# Altium footprint library TMDX654GPEVM_BRD.PcbLib: 153 footprints (part 12 of 12)
Each footprint in its own frame and in the unit in brackets; x right, y up, seen from the top. Pads: shape width x height; smd on the part's side, far side on the other; paste and mask are expansions set on the pad; w line width, h text height; cw(c..) or ccw(c..) is an arc to the next point about the centre after c.
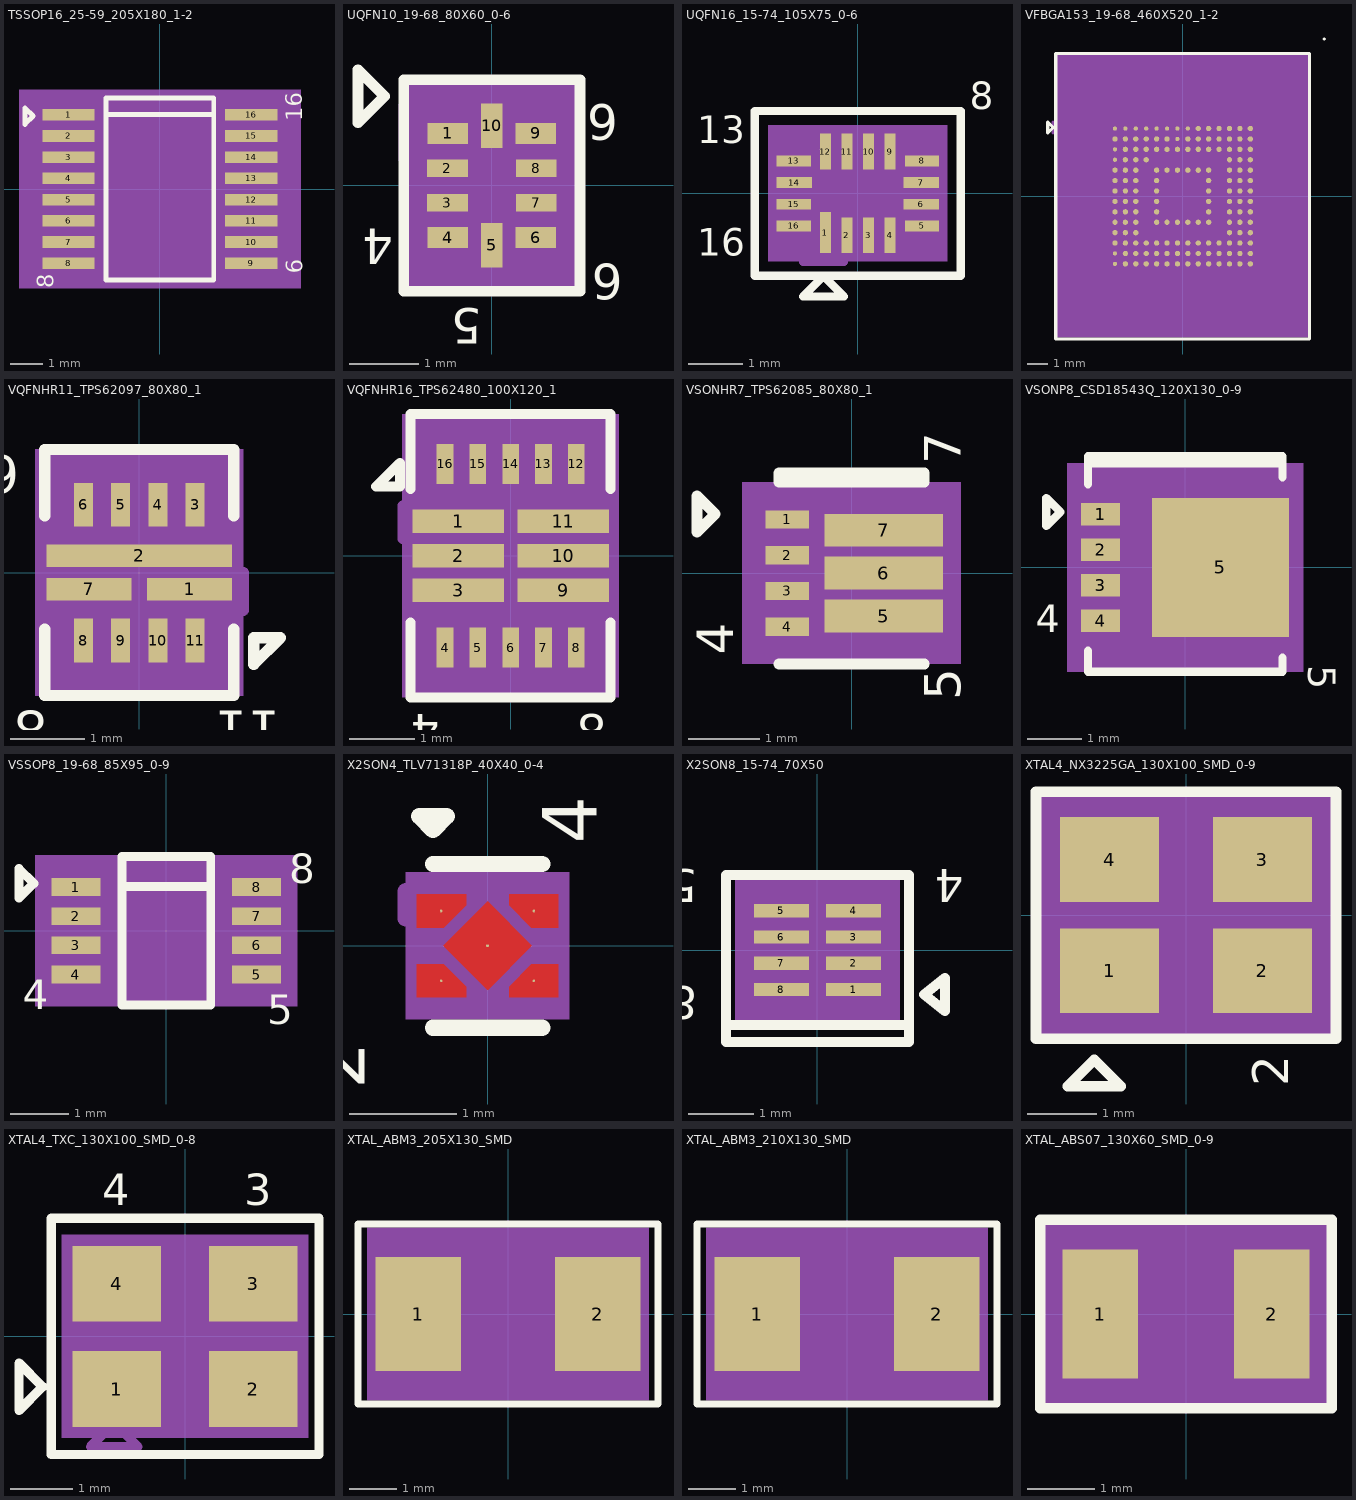
[diagram p11: the footprints below, top view; thin cyan lines are the x and y axes]

## TSSOP16_25-59_205X180_1-2 [mil] "TSSOP16_25-59_205X180_1-2"
pads (16):
  rect 63x14 smd: 1(-110.24,89.57) 2(-110.24,63.98) 3(-110.24,38.39) 4(-110.24,12.8) 5(-110.24,-12.8) 6(-110.24,-38.39) 7(-110.24,-63.98) 8(-110.24,-89.57) 9(110.24,-89.57) 10(110.24,-63.98) 11(110.24,-38.39) 12(110.24,-12.8) 13(110.24,12.8) 14(110.24,38.39) 15(110.24,63.98) 16(110.24,89.57)
Top Overlay:
  lines w6: -65,90 65,90 ; -163,78 -163,98 -153,88 -163,78 ; -65,-110 65,-110 65,110 -65,110 -65,-110
  text ".Designator" at 26,158 h30
  text "8" at -128,-119.5 h20
  text "9" at 152,-84.5 h20
  text "16" at 172,82 h20
Top Courtyard:
  dashed: -148.74,-107 -148.74,107 148.74,107 148.74,-107
Top 3D Body:
  region: -170,-120 170,-120 170,120 -170,120
Mechanical 10:
  lines w6: -90,80 90,80 ; -105,80 -105,100 -95,90 -105,80 ; -90,-100 90,-100 90,100 -90,100 -90,-100
  text "U46" at 22,-48 h30
Mechanical 11:
  lines w6: -90,80 90,80 ; -105,80 -105,100 -95,90 -105,80 ; -90,-100 90,-100 90,100 -90,100 -90,-100
  text "U46" at 22,-48 h30
Mechanical 12:
  lines w6: -90,80 90,80 ; -105,80 -105,100 -95,90 -105,80 ; -90,-100 90,-100 90,100 -90,100 -90,-100
  text "U46" at 22,-48 h30
Mechanical 13:
  lines w6: -90,80 90,80 ; -105,80 -105,100 -95,90 -105,80 ; -90,-100 90,-100 90,100 -90,100 -90,-100
  text "U46" at 22,-48 h30
Mechanical 14:
  lines w6: -90,80 90,80 ; -105,80 -105,100 -95,90 -105,80 ; -90,-100 90,-100 90,100 -90,100 -90,-100
  text "U46" at 22,-48 h30
Mechanical47:
  text "10" at 110.24,-71.98 h10
  text "9" at 110.24,-93.57 h10
  text "16" at 110.24,81.57 h10
  text "6" at -110.24,-42.39 h10
  text "4" at -110.24,8.8 h10
  text "2" at -110.24,59.98 h10
  text "3" at -110.24,34.39 h10
  text "8" at -110.24,-93.57 h10
  text "1" at -110.24,85.57 h10
  text "7" at -110.24,-67.98 h10
  text "5" at -110.24,-16.8 h10
  text "13" at 110.24,4.8 h10
  text "15" at 110.24,55.98 h10
  text "14" at 110.24,30.39 h10
  text "12" at 110.24,-20.8 h10
  text "11" at 110.24,-46.39 h10
Top Assembly:
  lines w6: -90,80 90,80 ; -105,80 -105,100 -95,90 -105,80 ; -90,-100 90,-100 90,100 -90,100 -90,-100
3D body: height 150, standoff 0, extent -170,-120 170,120

## UQFN10_19-68_80X60_0-6 [mil] "UQFN10_19-68_80X60_0-6"
pads (10):
  rect 23x12 smd: 1(-25,29.53) 4(-25,-29.53) 6(25,-29.53) 9(25,29.53)
  rect 23x10 smd: 2(-25.1,9.84) 3(-25.1,-9.84) 7(25.1,-9.84) 8(25.1,9.84)
  rect 12x25 smd: 5(0,-33.86) 10(0,33.86)
Top Overlay:
  lines w6: -75.81,35.5 -75.81,65.5 -60.81,50.5 -75.81,35.5 ; -50,-60 50,-60 50,60 -50,60 -50,-60
  text ".Designator" at 60.69,-94.5 h30
  text "4" at -55.81,-24.5 h20
  text "5" at -5.81,-69.5 h20
  text "6" at 74.19,-44.5 h20
  text "9" at 54.19,25.5 h20
Top Courtyard:
  dashed: -42.6,-52.36 -42.6,52.36 42.6,52.36 42.6,-52.36
Top 3D Body:
  region: -50,-60 50,-60 50,60 -50,60
Mechanical 10:
  lines w6: -50,15 -35,30 -50,45 -50,15 ; -30,-40 30,-40 30,40 -30,40 -30,-40
  text "U47" at 32.69,-54.5 h30
Mechanical 11:
  lines w6: -50,15 -35,30 -50,45 -50,15 ; -30,-40 30,-40 30,40 -30,40 -30,-40
  text "U47" at 32.69,-54.5 h30
Mechanical 12:
  lines w6: -50,15 -35,30 -50,45 -50,15 ; -30,-40 30,-40 30,40 -30,40 -30,-40
  text "U47" at 32.69,-54.5 h30
Mechanical 13:
  lines w6: -50,15 -35,30 -50,45 -50,15 ; -30,-40 30,-40 30,40 -30,40 -30,-40
  text "U47" at 32.69,-54.5 h30
Mechanical 14:
  lines w6: -50,15 -35,30 -50,45 -50,15 ; -30,-40 30,-40 30,40 -30,40 -30,-40
  text "U47" at 32.69,-54.5 h30
Mechanical47:
  text "5" at 13,-35 h10
  text "6" at 37,-33.33 h10
  text "10" at 25,31.67 h10
  text "8" at 37,6.67 h10
  text "2" at -13,6.67 h10
  text "7" at 37,-15.83 h10
  text "3" at -13,-13.33 h10
  text "1" at -13,26.67 h10
  text "9" at 37,26.67 h10
  text "4" at -12,-35 h10
Top Assembly:
  lines w6: -50,15 -35,30 -50,45 -50,15 ; -30,-40 30,-40 30,40 -30,40 -30,-40
3D body: height 150, standoff 0, extent -50,-60 50,60

## UQFN16_15-74_105X75_0-6 [mil] "UQFN16_15-74_105X75_0-6"
pads (16):
  rect 8x30 smd: 1(-23.62,-28.54)
  rect 8x26 smd: 2(-7.87,-30.51) 3(7.87,-30.51) 4(23.62,-30.51) 9(23.62,30.51) 10(7.87,30.51) 11(-7.87,30.51) 12(-23.62,30.51)
  rect 25x8 smd: 5(46.76,-23.62) 8(46.76,23.62) 13(-46.76,23.62) 15(-46.76,-7.87) 16(-46.76,-23.62)
  rect 26x8 smd: 6(46.26,-7.87) 7(46.26,7.87) 14(-46.26,7.87)
Top Overlay:
  lines w6: -75,-60 -75,60 75,60 75,-60 -75,-60 ; -40,-75 -25,-60 -10,-75 -40,-75
  text ".Designator" at -18.12,81.46 h30
  text "8" at 81.38,61.46 h20
  text "16" at -117.12,-45.21 h20
  text "13" at -117.12,36.46 h20
Top Courtyard:
  dashed: -65.26,-49.51 -65.26,49.51 65.26,49.51 65.26,-49.51
Top 3D Body:
  region: -50,35 -50,-35 50,-35 50,35
Mechanical 10:
  lines w6: -50,-35 50,-35 50,35 -50,35 -50,-35 ; -40,-50 -25,-35 -10,-50 -40,-50
  text "U6" at -18.12,-13.54 h30
Mechanical 11:
  lines w6: -50,-35 50,-35 50,35 -50,35 -50,-35 ; -40,-50 -25,-35 -10,-50 -40,-50
  text "U6" at -18.12,-13.54 h30
Mechanical 12:
  lines w6: -50,-35 50,-35 50,35 -50,35 -50,-35 ; -40,-50 -25,-35 -10,-50 -40,-50
  text "U6" at -18.12,-13.54 h30
Mechanical 13:
  lines w6: -50,-35 50,-35 50,35 -50,35 -50,-35 ; -40,-50 -25,-35 -10,-50 -40,-50
  text "U6" at -18.12,-13.54 h30
Mechanical 14:
  lines w6: -50,-35 50,-35 50,35 -50,35 -50,-35 ; -40,-50 -25,-35 -10,-50 -40,-50
  text "U6" at -18.12,-13.54 h30
Mechanical47:
  text "2" at -9.87,-26.51 h10
  text "7" at 43.26,2.87 h10
  text "8" at 43.76,18.62 h10
  text "5" at 43.76,-28.62 h10
  text "6" at 43.26,-12.87 h10
  text "4" at 21.62,-26.51 h10
  text "16" at -54.76,-30.29 h10
  text "11" at -21,40.75 h10
  text "10" at -6,40.75 h10
  text "1" at -25.62,-24.54 h10
  text "3" at 5.87,-26.51 h10
  text "14" at -54.26,1.21 h10
  text "12" at -36,40.75 h10
  text "13" at -54.76,16.96 h10
  text "15" at -54.76,-14.54 h10
  text "9" at 22,35.75 h10
Top Assembly:
  lines w6: -50,-35 50,-35 50,35 -50,35 -50,-35 ; -40,-50 -25,-35 -10,-50 -40,-50
3D body: height 150, standoff 0, extent -50,-35 50,35

## VFBGA153_19-68_460X520_1-2 [mil] "VFBGA153_19-68_460X520_1-2"
pads (153):
  round 8 smd: A1(-127.95,127.95) A2(-108.27,127.95) A3(-88.58,127.95) A4(-68.9,127.95) A5(-49.21,127.95) A6(-29.53,127.95) A7(-9.84,127.95) A8(9.84,127.95) B7(-9.84,108.27) C1(-127.95,88.58) D1(-127.95,68.9) N1(-127.95,-108.27) P1(-127.95,-127.95)
  round 10 smd: A9(29.53,127.95) A10(49.21,127.95) A11(68.9,127.95) A12(88.58,127.95) A13(108.27,127.95) A14(127.95,127.95) B1(-127.95,108.27) B2(-108.27,108.27) B3(-88.58,108.27) B4(-68.9,108.27) B5(-49.21,108.27) B6(-29.53,108.27) B8(9.84,108.27) B9(29.53,108.27) B10(49.21,108.27) B11(68.9,108.27) B12(88.58,108.27) B13(108.27,108.27) B14(127.95,108.27) C2(-108.27,88.58) C3(-88.58,88.58) C4(-68.9,88.58) C5(-49.21,88.58) C6(-29.53,88.58) C7(-9.84,88.58) C8(9.84,88.58) C9(29.53,88.58) C10(49.21,88.58) C11(68.9,88.58) C12(88.58,88.58) C13(108.27,88.58) C14(127.95,88.58) D2(-108.27,68.9) D3(-88.58,68.9) D4(-68.9,68.9) D12(88.58,68.9) D13(108.27,68.9) D14(127.95,68.9) E1(-127.95,49.21) E2(-108.27,49.21) E3(-88.58,49.21) E5(-49.21,49.21) E6(-29.53,49.21) E7(-9.84,49.21) E8(9.84,49.21) E9(29.53,49.21) E10(49.21,49.21) E12(88.58,49.21) E13(108.27,49.21) E14(127.95,49.21) F1(-127.95,29.53) F2(-108.27,29.53) F3(-88.58,29.53) F5(-49.21,29.53) F10(49.21,29.53) F12(88.58,29.53) F13(108.27,29.53) F14(127.95,29.53) G1(-127.95,9.84) G2(-108.27,9.84) G3(-88.58,9.84) G5(-49.21,9.84) G10(49.21,9.84) G12(88.58,9.84) G13(108.27,9.84) G14(127.95,9.84) H1(-127.95,-9.84) H2(-108.27,-9.84) H3(-88.58,-9.84) H5(-49.21,-9.84) H10(49.21,-9.84) H12(88.58,-9.84) H13(108.27,-9.84) H14(127.95,-9.84) J1(-127.95,-29.53) J2(-108.27,-29.53) J3(-88.58,-29.53) J5(-49.21,-29.53) J10(49.21,-29.53) J12(88.58,-29.53) J13(108.27,-29.53) J14(127.95,-29.53) K1(-127.95,-49.21) K2(-108.27,-49.21) K3(-88.58,-49.21) K5(-49.21,-49.21) K6(-29.53,-49.21) K7(-9.84,-49.21) K8(9.84,-49.21) K9(29.53,-49.21) K10(49.21,-49.21) K12(88.58,-49.21) K13(108.27,-49.21) K14(127.95,-49.21) L1(-127.95,-68.9) L2(-108.27,-68.9) L3(-88.58,-68.9) L12(88.58,-68.9) L13(108.27,-68.9) L14(127.95,-68.9) M1(-127.95,-88.58) M2(-108.27,-88.58) M3(-88.58,-88.58) M4(-68.9,-88.58) M5(-49.21,-88.58) M6(-29.53,-88.58) M7(-9.84,-88.58) M8(9.84,-88.58) M9(29.53,-88.58) M10(49.21,-88.58) M11(68.9,-88.58) M12(88.58,-88.58) M13(108.27,-88.58) M14(127.95,-88.58) N2(-108.27,-108.27) N3(-88.58,-108.27) N4(-68.9,-108.27) N5(-49.21,-108.27) N6(-29.53,-108.27) N7(-9.84,-108.27) N8(9.84,-108.27) N9(29.53,-108.27) N10(49.21,-108.27) N11(68.9,-108.27) N12(88.58,-108.27) N13(108.27,-108.27) N14(127.95,-108.27) P2(-108.27,-127.95) P3(-88.58,-127.95) P4(-68.9,-127.95) P5(-49.21,-127.95) P6(-29.53,-127.95) P7(-9.84,-127.95) P8(9.84,-127.95) P9(29.53,-127.95) P10(49.21,-127.95) P11(68.9,-127.95) P12(88.58,-127.95) P13(108.27,-127.95) P14(127.95,-127.95)
Top Overlay:
  lines w6: -240.47,-270 240,-270 240,270 -240,270 -240,-270 ; 267.24,297.24 267.72,297.24 ; -255,120 -255,140 -245,130 -255,120
  text ".Designator" at 255.98,20 h30
Top Courtyard:
  dashed: -237,-267 237,-267 237,267 -237,267
Top 3D Body:
  region: -230,260 230,260 230,-260 -230,-260
Mechanical 10:
  lines w6: -245,120 -245,140 -235,130 -245,120 ; -230,-260 230,-260 230,260 -230,260 -230,-260
  text "U51" at -36,-10 h30
Mechanical 11:
  lines w6: -245,120 -245,140 -235,130 -245,120 ; -230,-260 230,-260 230,260 -230,260 -230,-260
  text "U51" at -36,-10 h30
Mechanical 12:
  lines w6: -245,120 -245,140 -235,130 -245,120 ; -230,-260 230,-260 230,260 -230,260 -230,-260
  text "U51" at -36,-10 h30
Mechanical 13:
  lines w6: -245,120 -245,140 -235,130 -245,120 ; -230,-260 230,-260 230,260 -230,260 -230,-260
  text "U51" at -36,-10 h30
Mechanical 14:
  lines w6: -245,120 -245,140 -235,130 -245,120 ; -230,-260 230,-260 230,260 -230,260 -230,-260
  text "U51" at -36,-10 h30
Mechanical47:
  text "F5" at -57.21,29.53 h10
  text "E6" at -37.53,49.21 h10
  text "J10" at 37.21,-29.53 h10
  text "K9" at 21.53,-49.21 h10
  text "N5" at -57.21,-108.27 h10
  text "J5" at -57.21,-29.53 h10
  text "P6" at -37.53,-127.95 h10
  text "P4" at -76.9,-127.95 h10
  text "N2" at -116.27,-108.27 h10
  text "H10" at 37.21,-9.84 h10
  text "C4" at -76.9,88.58 h10
  text "K8" at 1.84,-49.21 h10
  text "G5" at -57.21,9.84 h10
  text "E7" at -17.84,49.21 h10
  text "A6" at -37.53,127.95 h10
  text "M4" at -76.9,-88.58 h10
  text "C6" at -37.53,88.58 h10
  text "P5" at -57.21,-127.95 h10
  text "P3" at -96.58,-127.95 h10
  text "N4" at -76.9,-108.27 h10
  text "B6" at -37.53,108.27 h10
  text "B3" at -96.58,108.27 h10
  text "A5" at -57.21,127.95 h10
  text "K5" at -57.21,-49.21 h10
  text "C2" at -116.27,88.58 h10
  text "H5" at -57.21,-9.84 h10
  text "A3" at -96.58,127.95 h10
  text "M6" at -37.53,-88.58 h10
  text "A4" at -76.9,127.95 h10
  text "B5" at -57.21,108.27 h10
  text "B2" at -116.27,108.27 h10
  text "B4" at -76.9,108.27 h10
  text "M5" at -57.21,-88.58 h10
  text "K7" at -17.84,-49.21 h10
  text "K6" at -37.53,-49.21 h10
  text "G10" at 37.21,9.84 h10
  text "F10" at 37.21,29.53 h10
  text "E10" at 37.21,49.21 h10
  text "E9" at 21.53,49.21 h10
  text "E8" at 1.84,49.21 h10
  text "E5" at -57.21,49.21 h10
  text "P10" at 37.21,-127.95 h10
  text "K10" at 37.21,-49.21 h10
  text "A7" at -17.84,127.95 h10
  text "N13" at 96.27,-108.27 h10
  text "N12" at 76.58,-108.27 h10
  text "N11" at 56.9,-108.27 h10
  text "N10" at 37.21,-108.27 h10
  text "N9" at 21.53,-108.27 h10
  text "N8" at 1.84,-108.27 h10
  text "N7" at -17.84,-108.27 h10
  text "N6" at -37.53,-108.27 h10
  text "N3" at -96.58,-108.27 h10
  text "N1" at -135.95,-108.27 h10
  text "A14" at 115.95,127.95 h10
  text "M14" at 115.95,-88.58 h10
  text "M13" at 96.27,-88.58 h10
  text "M12" at 76.58,-88.58 h10
  text "M11" at 56.9,-88.58 h10
  text "M10" at 37.21,-88.58 h10
  text "M9" at 21.53,-88.58 h10
  text "M8" at 1.84,-88.58 h10
  text "M7" at -17.84,-88.58 h10
  text "M3" at -96.58,-88.58 h10
  text "M2" at -116.27,-88.58 h10
  text "A13" at 96.27,127.95 h10
  text "M1" at -135.95,-88.58 h10
  text "L14" at 115.95,-68.9 h10
  text "L13" at 96.27,-68.9 h10
  text "L12" at 76.58,-68.9 h10
  text "L3" at -96.58,-68.9 h10
  text "L2" at -116.27,-68.9 h10
  text "L1" at -135.95,-68.9 h10
  text "K14" at 115.95,-49.21 h10
  text "K13" at 96.27,-49.21 h10
  text "K12" at 76.58,-49.21 h10
  text "A12" at 76.58,127.95 h10
  text "K3" at -96.58,-49.21 h10
  text "K2" at -116.27,-49.21 h10
  text "K1" at -135.95,-49.21 h10
  text "J14" at 115.95,-29.53 h10
  text "J13" at 96.27,-29.53 h10
  text "J12" at 76.58,-29.53 h10
  text "J3" at -96.58,-29.53 h10
  text "J2" at -116.27,-29.53 h10
  text "J1" at -135.95,-29.53 h10
  text "H14" at 115.95,-9.84 h10
  text "A11" at 56.9,127.95 h10
  text "H13" at 96.27,-9.84 h10
  text "H12" at 76.58,-9.84 h10
  text "H3" at -96.58,-9.84 h10
  text "H2" at -116.27,-9.84 h10
  text "H1" at -135.95,-9.84 h10
  text "G14" at 115.95,9.84 h10
  text "G13" at 96.27,9.84 h10
  text "G12" at 76.58,9.84 h10
  text "G3" at -96.58,9.84 h10
  text "G2" at -116.27,9.84 h10
  text "A10" at 37.21,127.95 h10
  text "G1" at -135.95,9.84 h10
  text "F14" at 115.95,29.53 h10
  text "F13" at 96.27,29.53 h10
  text "F12" at 76.58,29.53 h10
  text "F3" at -96.58,29.53 h10
  text "F2" at -116.27,29.53 h10
  text "F1" at -135.95,29.53 h10
  text "E14" at 115.95,49.21 h10
  text "E13" at 96.27,49.21 h10
  text "E12" at 76.58,49.21 h10
  text "A9" at 21.53,127.95 h10
  text "E3" at -96.58,49.21 h10
  text "E2" at -116.27,49.21 h10
  text "E1" at -135.95,49.21 h10
  text "D14" at 115.95,68.9 h10
  text "D13" at 96.27,68.9 h10
  text "D12" at 76.58,68.9 h10
  text "D4" at -76.9,68.9 h10
  text "D3" at -96.58,68.9 h10
  text "D2" at -116.27,68.9 h10
  text "D1" at -135.95,68.9 h10
  text "A8" at 1.84,127.95 h10
  text "C14" at 115.95,88.58 h10
  text "C13" at 96.27,88.58 h10
  text "C12" at 76.58,88.58 h10
  text "C11" at 56.9,88.58 h10
  text "C10" at 37.21,88.58 h10
  text "C9" at 21.53,88.58 h10
  text "C8" at 1.84,88.58 h10
  text "C7" at -17.84,88.58 h10
  text "C5" at -57.21,88.58 h10
  text "C3" at -96.58,88.58 h10
  text "A2" at -116.27,127.95 h10
  text "C1" at -135.95,88.58 h10
  text "B14" at 115.95,108.27 h10
  text "B13" at 96.27,108.27 h10
  text "B12" at 76.58,108.27 h10
  text "B11" at 56.9,108.27 h10
  text "B10" at 37.21,108.27 h10
  text "B9" at 21.53,108.27 h10
  text "B8" at 1.84,108.27 h10
  text "B7" at -17.84,108.27 h10
  text "P14" at 115.95,-127.95 h10
  text "P13" at 96.27,-127.95 h10
  text "P12" at 76.58,-127.95 h10
  text "P11" at 56.9,-127.95 h10
  text "P9" at 21.53,-127.95 h10
  text "P8" at 1.84,-127.95 h10
  text "P7" at -17.84,-127.95 h10
  text "P2" at -116.27,-127.95 h10
  text "P1" at -135.95,-127.95 h10
  text "N14" at 115.95,-108.27 h10
  text "B1" at -135.95,108.27 h10
  text "A1" at -135.95,127.95 h10
Top Assembly:
  lines w6: -245,120 -245,140 -235,130 -245,120 ; -230,-260 230,-260 230,260 -230,260 -230,-260
Bottom Component Outline:
  text "A" at -172.5,123.33 h20
  text "B" at -157.5,98.33 h20
  text "C" at -172.5,78.33 h20
  text "D" at -157.5,63.33 h20
  text "E" at -177.5,43.33 h20
  text "F" at -157.5,23.33 h20
  text "G" at -177.5,3.33 h20
  text "H" at -157.5,-16.67 h20
  text "J" at -177.5,-31.67 h20
  text "K" at -157.5,-51.67 h20
  text "L" at -182.5,-76.67 h20
  text "M" at -157.5,-96.67 h20
  text "N" at -182.5,-116.67 h20
  text "P" at -162.5,-136.67 h20
  text "1" at -127.5,158.33 h20
  text "2" at -102.5,183.33 h20
  text "3" at -82.5,158.33 h20
  text "4" at -62.5,178.33 h20
  text "5" at -42.5,158.33 h20
  text "6" at -22.5,178.33 h20
  text "7" at -2.5,158.33 h20
  text "8" at 17.5,183.33 h20
  text "9" at 37.5,158.33 h20
  text "10" at 66,183.33 h20
  text "11" at 91,158.33 h20
  text "12" at 116,183.33 h20
  text "13" at 136,158.33 h20
  text "14" at 156,183.33 h20
3D body: height 150, standoff 0, extent -230,-260 230,260

## VQFNHR11_TPS62097_80X80_1 [mil] "VQFNHR11_TPS62097_80X80_1"
pads (11):
  rect 45x12 smd: 1(26.57,-8.86) 7(-26.57,-8.86)
  rect 98x12 smd: 2(0,8.86)
  rect 10x23 smd: 3(29.53,35.93) 4(9.84,35.93) 5(-9.84,35.93) 6(-29.53,35.93) 8(-29.53,-35.93) 9(-9.84,-35.93) 10(9.84,-35.93) 11(29.53,-35.93)
Top Overlay:
  lines w6: -50,-30 -50,-65 50,-65 50,-30 ; -50,30 -50,65 50,65 50,30 ; 60.45,-48.61 60.45,-34.46 74.59,-34.46 60.45,-48.61
  text ".Designator" at -101.02,26 h30
  text "6" at -63.52,62 h20
  text "8" at -48.52,-73 h20
  text "11" at 74.98,-73 h20
Top Paste:
  dashed: -5.91,-4.92 -5.91,-12.8 -22.64,-12.8 -22.64,-4.92
  dashed: -30.51,-4.92 -30.51,-12.8 -47.24,-12.8 -47.24,-4.92
  dashed: 22.64,-4.92 22.64,-12.8 5.91,-12.8 5.91,-4.92
  dashed: 47.24,-4.92 47.24,-12.8 30.51,-12.8 30.51,-4.92
  dashed: 46.22,12.8 46.22,4.92 20.71,4.92 20.71,12.8
  dashed: 12.76,12.8 12.76,4.92 -12.76,4.92 -12.76,12.8
  dashed: -20.71,12.8 -20.71,4.92 -46.22,4.92 -46.22,12.8
Top Courtyard:
  dashed: 53.07,53.43 53.07,-53.43 -53.07,-53.43 -53.07,53.43
Top 3D Body:
  region: 55,-65 55,65 -55,65 -55,-65
Mechanical 15:
  lines w6: -40,-40 -40,40 40,40 40,-40 -40,-40 ; 45,-10 55,-20 55,0 45,-10
  text "U63" at -56.02,14 h30
Mechanical 16:
  lines w6: -40,-40 -40,40 40,40 40,-40 -40,-40 ; 45,-10 55,-20 55,0 45,-10
  text "U63" at -56.02,14 h30
Mechanical 17:
  lines w6: -40,-40 -40,40 40,40 40,-40 -40,-40 ; 45,-10 55,-20 55,0 45,-10
  text "U63" at -56.02,14 h30
Mechanical 18:
  lines w6: -40,-40 -40,40 40,40 40,-40 -40,-40 ; 45,-10 55,-20 55,0 45,-10
  text "U63" at -56.02,14 h30
Mechanical 19:
  lines w6: -40,-40 -40,40 40,40 40,-40 -40,-40 ; 45,-10 55,-20 55,0 45,-10
  text "U63" at -56.02,14 h30
Mechanical47:
  text "10" at 1.84,-30.93 h10
  text "6" at -33.53,40.93 h10
  text "9" at -13.84,-30.93 h10
  text "8" at -33.53,-30.93 h10
  text "7" at -30.57,-3.86 h10
  text "5" at -13.84,40.93 h10
  text "4" at 5.84,40.93 h10
  text "2" at -4,13.33 h10
  text "11" at 21.53,-30.93 h10
  text "1" at 22.57,-3.86 h10
  text "3" at 25.53,40.93 h10
Top Assembly:
  lines w6: -40,-40 -40,40 40,40 40,-40 -40,-40 ; 45,-10 55,-20 55,0 45,-10
Top Component Outline:
  text "3" at 61.48,102 h20
3D body: height 150, standoff 0, extent -55,-65 55,65

## VQFNHR16_TPS62480_100X120_1 [mil] "VQFNHR16_TPS62480_100X120_1"
pads (16):
  rect 55x14 smd: 1(-31.5,20.67) 2(-31.5,0) 3(-31.5,-20.67) 9(31.5,-20.67) 10(31.5,0) 11(31.5,20.67)
  rect 10x24 smd: 4(-39.37,-55.12) 5(-19.68,-55.12) 6(0,-55.12) 7(19.68,-55.12) 8(39.37,-55.12) 12(39.37,55.12) 13(19.68,55.12) 14(0,55.12) 15(-19.68,55.12) 16(-39.37,55.12)
Top Overlay:
  lines w6: -60,-40 -60,-85 60,-85 60,-40 ; -60,40 -60,85 60,85 60,40 ; -80.62,41.46 -66.48,55.61 -66.48,41.46 -80.62,41.46
  text ".Designator" at 18.98,-140 h30
  text "4" at -42.52,-95 h20
  text "8" at 57.48,-95 h20
Top Paste:
  dashed: -57.09,15.75 -57.09,25.59 -35.43,25.59 -35.43,15.75
  dashed: -57.09,-4.92 -57.09,4.92 -35.43,4.92 -35.43,-4.92
  dashed: -57.09,-25.59 -57.09,-15.75 -35.43,-15.75 -35.43,-25.59
  dashed: 35.43,15.75 35.43,25.59 57.09,25.59 57.09,15.75
  dashed: 35.43,-4.92 35.43,4.92 57.09,4.92 57.09,-4.92
  dashed: 35.43,-25.59 35.43,-15.75 57.09,-15.75 57.09,-25.59
  dashed: -27.56,15.75 -27.56,25.59 -5.91,25.59 -5.91,15.75
  dashed: -27.56,-4.92 -27.56,4.92 -5.91,4.92 -5.91,-4.92
  dashed: -27.56,-25.59 -27.56,-15.75 -5.91,-15.75 -5.91,-25.59
  dashed: 5.91,15.75 5.91,25.59 27.56,25.59 27.56,15.75
  dashed: 5.91,-4.92 5.91,4.92 27.56,4.92 27.56,-4.92
  dashed: 5.91,-25.59 5.91,-15.75 27.56,-15.75 27.56,-25.59
Top Courtyard:
  dashed: -64,-73.12 -64,73.12 63,73.12 63,-73.12
Top 3D Body:
  region: -65,85 -65,-85 65,-85 65,85
Mechanical 15:
  lines w6: -65,10 -65,30 -55,20 -65,10 ; -50,-60 50,-60 50,60 -50,60 -50,-60
  text "U61" at 28.98,15 h30
Mechanical 16:
  lines w6: -65,10 -65,30 -55,20 -65,10 ; -50,-60 50,-60 50,60 -50,60 -50,-60
  text "U61" at 28.98,15 h30
Mechanical 17:
  lines w6: -65,10 -65,30 -55,20 -65,10 ; -50,-60 50,-60 50,60 -50,60 -50,-60
  text "U61" at 28.98,15 h30
Mechanical 18:
  lines w6: -65,10 -65,30 -55,20 -65,10 ; -50,-60 50,-60 50,60 -50,60 -50,-60
  text "U61" at 28.98,15 h30
Mechanical 19:
  lines w6: -65,10 -65,30 -55,20 -65,10 ; -50,-60 50,-60 50,60 -50,60 -50,-60
  text "U61" at 28.98,15 h30
Mechanical47:
  text "3" at -35.5,-25.67 h10
  text "9" at 27.5,-25.67 h10
  text "4" at -38.37,-55.12 h10
  text "15" at -22.68,55.12 h10
  text "12" at 36.37,55.12 h10
  text "2" at -35.5,-5 h10
  text "14" at -3,55.12 h10
  text "8" at 40.37,-55.12 h10
  text "10" at 23.5,-5 h10
  text "5" at -18.68,-55.12 h10
  text "7" at 20.68,-55.12 h10
  text "6" at 1,-55.12 h10
  text "13" at 16.68,55.12 h10
  text "1" at -35.5,15.67 h10
  text "11" at 23.5,15.67 h10
  text "16" at -42.37,55.12 h10
Top Assembly:
  lines w6: -65,10 -65,30 -55,20 -65,10 ; -50,-60 50,-60 50,60 -50,60 -50,-60
Top Component Outline:
  text "3" at -67.52,-35 h20
  text "9" at 82.48,-40 h20
  text "11" at 69,13.33 h20
  text "12" at 24,93.33 h20
  text "16" at -56,93.33 h20
3D body: height 150, standoff 0, extent -65,-85 65,85

## VSONHR7_TPS62085_80X80_1 [mil] "VSONHR7_TPS62085_80X80_1"
pads (7):
  rect 24x10 smd: 1(-35.43,29.53) 2(-35.43,9.84) 3(-35.43,-9.84) 4(-35.43,-29.53)
  rect 65x18 smd: 5(17.72,-23.62) 6(17.72,0) 7(17.72,23.62)
Top Overlay:
  lines w6: -40,-50 40,-50 ; -85,22.5 -85,42.5 -75,32.5 -85,22.5 ; -40,50 40,50 40,55 -40,55 -40,50
  text ".Designator" at 9,107.5 h30
  text "4" at -65,-45 h20
  text "5" at 60,-70 h20
  text "7" at 60,60 h20
Top Paste:
  dashed: -11.81,17.72 -11.81,29.53 13.78,29.53 13.78,17.72
  dashed: -11.81,-5.91 -11.81,5.91 13.78,5.91 13.78,-5.91
  dashed: -11.81,-29.53 -11.81,-17.72 13.78,-17.72 13.78,-29.53
  dashed: 21.65,17.72 21.65,29.53 47.24,29.53 47.24,17.72
  dashed: 21.65,-5.91 21.65,5.91 47.24,5.91 47.24,-5.91
  dashed: 21.65,-29.53 21.65,-17.72 47.24,-17.72 47.24,-29.53
Top Courtyard:
  dashed: -53.43,47 -53.43,-47 54.22,-47 54.22,47
Top 3D Body:
  region: -60,50 -60,-50 60,-50 60,50
Mechanical 15:
  lines w6: -40,30 -40,40 40,40 40,-40 -40,-40 -40,30 ; -40,30 40,30 -40,30 ; -55,20 -55,40 -45,30 -55,20
  text "U94" at 15,53.5 h30
Mechanical 16:
  lines w6: -40,30 -40,40 40,40 40,-40 -40,-40 -40,30 ; -40,30 40,30 -40,30 ; -55,20 -55,40 -45,30 -55,20
  text "U94" at 15,53.5 h30
Mechanical 17:
  lines w6: -40,30 -40,40 40,40 40,-40 -40,-40 -40,30 ; -40,30 40,30 -40,30 ; -55,20 -55,40 -45,30 -55,20
  text "U94" at 15,53.5 h30
Mechanical 18:
  lines w6: -40,30 -40,40 40,40 40,-40 -40,-40 -40,30 ; -40,30 40,30 -40,30 ; -55,20 -55,40 -45,30 -55,20
  text "U94" at 15,53.5 h30
Mechanical 19:
  lines w6: -40,30 -40,40 40,40 40,-40 -40,-40 -40,30 ; -40,30 40,30 -40,30 ; -55,20 -55,40 -45,30 -55,20
  text "U94" at 15,53.5 h30
Mechanical47:
  text "1" at -35.43,28.53 h10
  text "7" at 17.72,22.62 h10
  text "2" at -35.43,8.84 h10
  text "6" at 17.72,-1 h10
  text "5" at 17.72,-24.62 h10
  text "3" at -35.43,-10.84 h10
  text "4" at -35.43,-30.53 h10
Top Assembly:
  lines w6: -40,30 40,30 -40,30 ; -40,30 -40,-40 40,-40 40,40 -40,40 -40,30 ; -55,20 -55,40 -45,30 -55,20
3D body: height 150, standoff 0, extent -60,-50 60,50

## VSONP8_CSD18543Q_120X130_0-9 [mil] "VSONP8_CSD18543Q_120X130_0-9"
pads (5):
  rect 28x16 smd: 1(-61.02,38.39) 2(-61.02,12.8) 3(-61.02,-12.8) 4(-61.02,-38.39)
  rect 99x100 smd: 5(25.39,0)
Top Overlay:
  lines w6: -70,-60 -70,-75 70,-75 70,-65 ; -70,60 -70,75 ; 70,65 70,80 -70,80 -70,75 ; -70,75 70,75 -70,75 ; -100,30 -100,50 -90,40 -100,30
  text ".Designator" at 98.6,31.06 h30
  text "4" at -107.5,-46.67 h20
  text "5" at 88.6,-70.44 h20
Top Paste:
  dashed: -22.07,3.94 -22.07,48.23 5.69,48.23 5.69,3.94
  dashed: 13.56,3.94 13.56,48.23 41.32,48.23 41.32,3.94
  dashed: -22.07,-48.23 -22.07,-3.94 5.69,-3.94 5.69,-48.23
  dashed: 13.56,-48.23 13.56,-3.94 41.32,-3.94 41.32,-48.23
  dashed: 49.21,32.48 49.21,44.29 72.83,44.29 72.83,32.48
  dashed: 49.21,6.89 49.21,18.7 72.83,18.7 72.83,6.89
  dashed: 49.21,-18.7 49.21,-6.89 72.83,-6.89 72.83,-18.7
  dashed: 49.21,-44.29 49.21,-32.48 72.83,-32.48 72.83,-44.29
Top Solder:
  region: -22.05,48.23 47.83,48.23 47.83,44.29 72.83,44.29 72.83,32.48 47.83,32.48 47.83,18.7 72.83,18.7 72.83,6.89 47.83,6.89 47.83,-6.89 72.83,-6.89 72.83,-18.7 47.83,-18.7 47.83,-32.48 72.83,-32.48 72.83,-44.29 47.83,-44.29 47.83,-48.23 -22.05,-48.23
  region: -22.05,48.23 47.83,48.23 47.83,44.29 72.83,44.29 72.83,32.48 47.83,32.48 47.83,18.7 72.83,18.7 72.83,6.89 47.83,6.89 47.83,-6.89 72.83,-6.89 72.83,-18.7 47.83,-18.7 47.83,-32.48 72.83,-32.48 72.83,-44.29 47.83,-44.29 47.83,-48.23 -22.05,-48.23
Top Courtyard:
  dashed: -79.02,72 -79.02,-72 78.89,-72 78.89,72
Top 3D Body:
  region: -85,75 -85,-75 85,-75 85,75
Mechanical 15:
  lines w6: -60,55 -60,65 60,65 60,-65 -60,-65 -60,55 ; -60,55 60,55 -60,55 ; -75,30 -75,50 -65,40 -75,30
  text "U71" at -11.4,26.06 h30
Mechanical 16:
  lines w6: -60,55 -60,65 60,65 60,-65 -60,-65 -60,55 ; -60,55 60,55 -60,55 ; -75,30 -75,50 -65,40 -75,30
  text "U71" at -11.4,26.06 h30
Mechanical 17:
  lines w6: -60,55 -60,65 60,65 60,-65 -60,-65 -60,55 ; -60,55 60,55 -60,55 ; -75,30 -75,50 -65,40 -75,30
  text "U71" at -11.4,26.06 h30
Mechanical 18:
  lines w6: -60,55 -60,65 60,65 60,-65 -60,-65 -60,55 ; -60,55 60,55 -60,55 ; -75,30 -75,50 -65,40 -75,30
  text "U71" at -11.4,26.06 h30
Mechanical 19:
  lines w6: -60,55 -60,65 60,65 60,-65 -60,-65 -60,55 ; -60,55 60,55 -60,55 ; -75,30 -75,50 -65,40 -75,30
  text "U71" at -11.4,26.06 h30
Mechanical47:
  text "4" at -61.02,-47.39 h10
  text "5" at 25.39,-4 h10
  text "1" at -61.02,29.39 h10
  text "3" at -61.02,-21.8 h10
  text "2" at -61.02,3.8 h10
Top Assembly:
  lines w6: -60,55 60,55 -60,55 ; -60,55 -60,-65 60,-65 60,65 -60,65 -60,55 ; -75,30 -75,50 -65,40 -75,30
3D body: height 150, standoff 0, extent -85,-75 85,75

## VSSOP8_19-68_85X95_0-9 [mil] "VSSOP8_19-68_85X95_0-9"
pads (8):
  rect 33x12 smd: 1(-61.02,29.53) 2(-61.02,9.84) 3(-61.02,-9.84) 4(-61.02,-29.53) 5(61.02,-29.53) 6(61.02,-9.84) 7(61.02,9.84) 8(61.02,29.53)
Top Overlay:
  lines w6: -30,30 30,30 ; -99.4,21.94 -99.4,41.94 -89.4,31.94 -99.4,21.94 ; -30,-50 30,-50 30,50 -30,50 -30,-50
  text ".Designator" at -36.4,66.94 h30
  text "4" at -96.9,-53.06 h20
  text "5" at 68.1,-63.06 h20
  text "8" at 83.1,31.94 h20
Top Courtyard:
  dashed: -83.52,-47 -83.52,47 83.52,47 83.52,-47
Top 3D Body:
  region: -88.5,-51 -88.5,51 88.5,51 88.5,-51
Mechanical 10:
  lines w6: -45,20 45,20 ; -60,20 -60,40 -50,30 -60,20 ; -45,-40 45,-40 45,40 -45,40 -45,-40
  text "U8" at -18.4,-28.06 h30
Mechanical 11:
  lines w6: -45,20 45,20 ; -60,20 -60,40 -50,30 -60,20 ; -45,-40 45,-40 45,40 -45,40 -45,-40
  text "U8" at -18.4,-28.06 h30
Mechanical 12:
  lines w6: -45,20 45,20 ; -60,20 -60,40 -50,30 -60,20 ; -45,-40 45,-40 45,40 -45,40 -45,-40
  text "U8" at -18.4,-28.06 h30
Mechanical 13:
  lines w6: -45,20 45,20 ; -60,20 -60,40 -50,30 -60,20 ; -45,-40 45,-40 45,40 -45,40 -45,-40
  text "U8" at -18.4,-28.06 h30
Mechanical 14:
  lines w6: -45,20 45,20 ; -60,20 -60,40 -50,30 -60,20 ; -45,-40 45,-40 45,40 -45,40 -45,-40
  text "U8" at -18.4,-28.06 h30
Mechanical47:
  text "6" at 57.02,-9.84 h10
  text "7" at 57.02,9.84 h10
  text "5" at 57.02,-29.53 h10
  text "4" at -65.02,-29.53 h10
  text "8" at 57.02,29.53 h10
  text "2" at -65.02,9.84 h10
  text "1" at -65.02,29.53 h10
  text "3" at -65.02,-9.84 h10
Top Assembly:
  lines w6: -45,20 45,20 ; -60,20 -60,40 -50,30 -60,20 ; -45,-40 45,-40 45,40 -45,40 -45,-40
3D body: height 150, standoff 0, extent -88.5,-51 88.5,51

## X2SON4_TLV71318P_40X40_0-4 [mil] "X2SON4_TLV71318P_40X40_0-4"
pads (5):
  oct 1x1 smd: 1(-16.93,12.8) 2(-16.93,-12.8) 3(16.93,-12.8) 4(16.93,12.8) 5(0,0)
Top Layer:
  region: 25.98,-18.9 7.87,-18.9 7.87,-14.93 16.11,-6.69 25.98,-6.69
  region: 25.98,-18.9 7.87,-18.9 7.87,-14.93 16.11,-6.69 25.98,-6.69
  region: -25.98,-18.9 -7.87,-18.9 -7.87,-14.93 -16.11,-6.69 -25.98,-6.69
  region: -25.98,-18.9 -7.87,-18.9 -7.87,-14.93 -16.11,-6.69 -25.98,-6.69
  region: 0,16.26 -16.26,0 0,-16.26 16.26,0
  region: 25.98,18.9 7.87,18.9 7.87,14.93 16.11,6.69 25.98,6.69
  region: 25.98,18.9 7.87,18.9 7.87,14.93 16.11,6.69 25.98,6.69
  region: -25.98,18.9 -7.87,18.9 -7.87,14.93 -16.11,6.69 -25.98,6.69
  region: -25.98,18.9 -7.87,18.9 -7.87,14.93 -16.11,6.69 -25.98,6.69
Top Overlay:
  lines w6: -20,-30 20,-30 ; -20,30 20,30 ; -25,47.5 -15,47.5 -20,42.5 -25,47.5
  text ".Designator" at 10,68 h30
  text "2" at -45,-52.5 h20
  text "4" at 40,37.5 h20
Top Paste:
  region: 25.98,-18.9 7.87,-18.9 7.87,-14.93 16.11,-6.69 25.98,-6.69
  region: 25.98,-18.9 7.87,-18.9 7.87,-14.93 16.11,-6.69 25.98,-6.69
  region: -25.98,-18.9 -7.87,-18.9 -7.87,-14.93 -16.11,-6.69 -25.98,-6.69
  region: -25.98,-18.9 -7.87,-18.9 -7.87,-14.93 -16.11,-6.69 -25.98,-6.69
  region: 0,16.26 -16.26,0 0,-16.26 16.26,0
  region: 25.98,18.9 7.87,18.9 7.87,14.93 16.11,6.69 25.98,6.69
  region: 25.98,18.9 7.87,18.9 7.87,14.93 16.11,6.69 25.98,6.69
  region: -25.98,18.9 -7.87,18.9 -7.87,14.93 -16.11,6.69 -25.98,6.69
  region: -25.98,18.9 -7.87,18.9 -7.87,14.93 -16.11,6.69 -25.98,6.69
Top Solder:
  region: 24.02,-8.66 16.93,-8.66 9.84,-15.75 9.84,-16.93 24.02,-16.93
  region: 24.02,-8.66 16.93,-8.66 9.84,-15.75 9.84,-16.93 24.02,-16.93
  region: -24.02,-8.66 -16.93,-8.66 -9.84,-15.75 -9.84,-16.93 -24.02,-16.93
  region: -24.02,-8.66 -16.93,-8.66 -9.84,-15.75 -9.84,-16.93 -24.02,-16.93
  region: 0,13.44 -13.44,0 0,-13.44 13.44,0
  region: 24.02,8.66 16.93,8.66 9.84,15.75 9.84,16.93 24.02,16.93
  region: 24.02,8.66 16.93,8.66 9.84,15.75 9.84,16.93 24.02,16.93
  region: -24.02,8.66 -16.93,8.66 -9.84,15.75 -9.84,16.93 -24.02,16.93
  region: -24.02,8.66 -16.93,8.66 -9.84,15.75 -9.84,16.93 -24.02,16.93
Top Courtyard:
  dashed: -29.98,-27 -29.98,27 29.98,27 29.98,-27
Top 3D Body:
  region: -20,20 -20,-20 20,-20 20,20
Mechanical 10:
  lines w6: -30,10 -30,20 -25,15 -30,10 ; -20,-20 20,-20 20,20 -20,20 -20,-20
  text "U1" at 20,58 h30
Mechanical 11:
  lines w6: -30,10 -30,20 -25,15 -30,10 ; -20,-20 20,-20 20,20 -20,20 -20,-20
  text "U1" at 20,58 h30
Mechanical 12:
  lines w6: -30,10 -30,20 -25,15 -30,10 ; -20,-20 20,-20 20,20 -20,20 -20,-20
  text "U1" at 20,58 h30
Mechanical 13:
  lines w6: -30,10 -30,20 -25,15 -30,10 ; -20,-20 20,-20 20,20 -20,20 -20,-20
  text "U1" at 20,58 h30
Mechanical 14:
  lines w6: -30,10 -30,20 -25,15 -30,10 ; -20,-20 20,-20 20,20 -20,20 -20,-20
  text "U1" at 20,58 h30
Mechanical47:
  text "4" at 16.93,3.8 h10
  text "1" at -16.93,3.8 h10
  text "5" at 4,-11.33 h10
  text "2" at -16.93,-21.8 h10
  text "3" at 16.93,-21.8 h10
Top Assembly:
  lines w6: -30,10 -30,20 -25,15 -30,10 ; -20,-20 20,-20 20,20 -20,20 -20,-20
Top Component Outline:
  text "3" at 50,-37.5 h20
3D body: height 150, standoff 0, extent -20,-20 20,20

## X2SON8_15-74_70X50 [mil] "X2SON8_15-74_70X50"
pads (8):
  rect 33x8 smd: 1(21.65,-23.62) 2(21.65,-7.87) 3(21.65,7.87) 4(21.65,23.62) 5(-21.65,23.62) 6(-21.65,7.87) 7(-21.65,-7.87) 8(-21.65,-23.62)
Top Overlay:
  lines w6: 55,-45 -55,-45 ; -55,-45 -55,45 55,45 55,-55 -55,-55 -55,-45 ; 63.96,-26.58 76.46,-16.58 76.46,-36.58 63.96,-26.58
  text "4" at 87.71,48.42 h20
  text "5" at -72.29,48.42 h20
  text "8" at -72.29,-21.58 h20
Top Courtyard:
  dashed: 44.15,42 44.15,-42 -44.15,-42 -44.15,42
Top 3D Body:
  region: -49.21,47.24 -49.21,-47.24 49.21,-47.24 49.21,47.24
Mechanical 15:
  lines w6: -25,-25 25,-25 ; -25,-35 -25,35 25,35 25,-35 -25,-35 ; 28.75,-25 41.25,-15 41.25,-35 28.75,-25
  text "U97" at 114.21,23.42 h30
Mechanical 16:
  lines w6: -25,-25 25,-25 ; -25,-35 -25,35 25,35 25,-35 -25,-35 ; 28.75,-25 41.25,-15 41.25,-35 28.75,-25
  text "U97" at 114.21,23.42 h30
Mechanical 17:
  lines w6: -25,-25 25,-25 ; -25,-35 -25,35 25,35 25,-35 -25,-35 ; 28.75,-25 41.25,-15 41.25,-35 28.75,-25
  text "U97" at 114.21,23.42 h30
Mechanical 18:
  lines w6: -25,-25 25,-25 ; -25,-35 -25,35 25,35 25,-35 -25,-35 ; 28.75,-25 41.25,-15 41.25,-35 28.75,-25
  text "U97" at 114.21,23.42 h30
Mechanical 19:
  lines w6: -25,-25 25,-25 ; -25,-35 -25,35 25,35 25,-35 -25,-35 ; 28.75,-25 41.25,-15 41.25,-35 28.75,-25
  text "U97" at 114.21,23.42 h30
Mechanical47:
  text "1" at 17.65,-18.62 h10
  text "5" at -25.65,28.62 h10
  text "3" at 17.65,12.87 h10
  text "6" at -25.65,12.87 h10
  text "4" at 17.65,28.62 h10
  text "8" at -25.65,-18.62 h10
  text "7" at -25.65,-2.87 h10
  text "2" at 17.65,-2.87 h10
Top Assembly:
  lines w6: -25,-25 25,-25 ; -25,-35 -25,35 25,35 25,-35 -25,-35 ; 28.75,-25 41.25,-15 41.25,-35 28.75,-25
  text ".Designator" at 114.21,23.42 h30
3D body: height 150, standoff 0, extent -49.21,-47.24 49.21,47.24

## XTAL4_NX3225GA_130X100_SMD_0-9 [mil] "XTAL4_NX3225GA_130X100_SMD_0-9"
pads (4):
  rect 56x48 smd: 1(-43.31,-31.5) 2(43.31,-31.5) 3(43.31,31.5) 4(-43.31,31.5)
Top Overlay:
  lines w6: -85,-70 85,-70 85,70 -85,70 -85,-70 ; -66.96,-97 -51.96,-82 -36.96,-97 -66.96,-97
  text ".Designator" at 18.04,-131.5 h30
  text "2" at 58.04,-97 h20
Top Courtyard:
  dashed: -78.31,-62.5 -78.31,62.5 78.31,62.5 78.31,-62.5
Top 3D Body:
  region: -85,70 -85,-70 85,-70 85,70
Mechanical 15:
  lines w6: -65,-50 65,-50 65,50 -65,50 -65,-50 ; -60,-70 -45,-55 -30,-70 -60,-70
  text "Y6" at 13.04,-21.5 h30
Mechanical 16:
  lines w6: -65,-50 65,-50 65,50 -65,50 -65,-50 ; -60,-70 -45,-55 -30,-70 -60,-70
  text "Y6" at 13.04,-21.5 h30
Mechanical 17:
  lines w6: -65,-50 65,-50 65,50 -65,50 -65,-50 ; -60,-70 -45,-55 -30,-70 -60,-70
  text "Y6" at 13.04,-21.5 h30
Mechanical 18:
  lines w6: -65,-50 65,-50 65,50 -65,50 -65,-50 ; -60,-70 -45,-55 -30,-70 -60,-70
  text "Y6" at 13.04,-21.5 h30
Mechanical 19:
  lines w6: -65,-50 65,-50 65,50 -65,50 -65,-50 ; -60,-70 -45,-55 -30,-70 -60,-70
  text "Y6" at 13.04,-21.5 h30
Mechanical47:
  text "1" at -43.31,-27.5 h10
  text "4" at -43.31,35.5 h10
  text "2" at 43.31,-27.5 h10
  text "3" at 43.31,35.5 h10
Top Assembly:
  lines w6: -65,-50 65,-50 65,50 -65,50 -65,-50 ; -60,-70 -45,-55 -30,-70 -60,-70
Top Component Outline:
  text "4" at -96.96,33 h20
  text "3" at 37.5,78.33 h20
3D body: height 150, standoff 0, extent -85,-70 85,70

## XTAL4_TXC_130X100_SMD_0-8 [mil] "XTAL4_TXC_130X100_SMD_0-8"
pads (4):
  rect 56x48 smd: 1(-43.31,-33.46) 2(43.31,-33.46) 3(43.31,33.46) 4(-43.31,33.46)
Top Overlay:
  lines w6: -105.41,-47.02 -105.41,-17.02 -90.41,-32.02 -105.41,-47.02 ; -85,-75 85,-75 85,75 -85,75 -85,-75
  text ".Designator" at -21.91,111.48 h30
  text "4" at -52.5,83.33 h20
  text "3" at 37.5,83.33 h20
Top Courtyard:
  dashed: -78.31,-64.46 -78.31,64.46 78.31,64.46 78.31,-64.46
Top 3D Body:
  region: -65,50 -65,-50 65,-50 65,50
Mechanical 15:
  lines w6: -65,-50 65,-50 65,50 -65,50 -65,-50 ; -60,-70 -45,-55 -30,-70 -60,-70
  text "Y4" at -22,-10 h30
Mechanical 16:
  lines w6: -65,-50 65,-50 65,50 -65,50 -65,-50 ; -60,-70 -45,-55 -30,-70 -60,-70
  text "Y4" at -22,-10 h30
Mechanical 17:
  lines w6: -65,-50 65,-50 65,50 -65,50 -65,-50 ; -60,-70 -45,-55 -30,-70 -60,-70
  text "Y4" at -22,-10 h30
Mechanical 18:
  lines w6: -65,-50 65,-50 65,50 -65,50 -65,-50 ; -60,-70 -45,-55 -30,-70 -60,-70
  text "Y4" at -22,-10 h30
Mechanical 19:
  lines w6: -65,-50 65,-50 65,50 -65,50 -65,-50 ; -60,-70 -45,-55 -30,-70 -60,-70
  text "Y4" at -22,-10 h30
Mechanical47:
  text "2" at 43.31,-37.46 h10
  text "4" at -43.31,29.46 h10
  text "1" at -43.31,-37.46 h10
  text "3" at 43.31,29.46 h10
Top Assembly:
  lines w6: -65,-50 65,-50 65,50 -65,50 -65,-50 ; -60,-70 -45,-55 -30,-70 -60,-70
3D body: height 150, standoff 0, extent -65,-50 65,50

## XTAL_ABM3_205X130_SMD [mil] "XTAL_ABM3_205X130_SMD"
pads (2):
  rect 71x95 smd: 1(-74.8,0) 2(74.8,0)
Top Overlay:
  lines w6: -125,-75 -125,75 125,75 125,-75 -125,-75
  text ".Designator" at -180,-18 h30
Top Courtyard:
  dashed: -117.3,-72 -117.3,72 117.3,72 117.3,-72
Top 3D Body:
  lines w1: -125,-75 -125,75 125,75 125,-75 -125,-75
Mechanical 15:
  lines w6: -105,-65 105,-65 105,65 -105,65 -105,-65
  text "Y2" at -5,22 h30
Mechanical 16:
  lines w6: -105,-65 105,-65 105,65 -105,65 -105,-65
  text "Y2" at -5,22 h30
Mechanical 17:
  lines w6: -105,-65 105,-65 105,65 -105,65 -105,-65
  text "Y2" at -5,22 h30
Mechanical 18:
  lines w6: -105,-65 105,-65 105,65 -105,65 -105,-65
  text "Y2" at -5,22 h30
Mechanical 19:
  lines w6: -105,-65 105,-65 105,65 -105,65 -105,-65
  text "Y2" at -5,22 h30
Mechanical47:
  text "1" at -74.8,-4 h10
  text "2" at 74.8,-4 h10
Top Assembly:
  lines w6: -105,-65 105,-65 105,65 -105,65 -105,-65

## XTAL_ABM3_210X130_SMD [mil] "XTAL_ABM3_210X130_SMD"
pads (2):
  rect 71x95 smd: 1(-74.8,0) 2(74.8,0)
Top Overlay:
  lines w6: -125,-75 -125,75 125,75 125,-75 -125,-75
  text ".Designator" at 136.25,-45.52 h30
Top Courtyard:
  dashed: -117.3,-72 -117.3,72 117.3,72 117.3,-72
Top 3D Body:
  lines w1: -125,-75 -125,75 125,75 125,-75 -125,-75
Mechanical 15:
  lines w6: -105,-65 105,-65 105,65 -105,65 -105,-65
  text "Y3" at -13.75,24.48 h30
Mechanical 16:
  lines w6: -105,-65 105,-65 105,65 -105,65 -105,-65
  text "Y3" at -13.75,24.48 h30
Mechanical 17:
  lines w6: -105,-65 105,-65 105,65 -105,65 -105,-65
  text "Y3" at -13.75,24.48 h30
Mechanical 18:
  lines w6: -105,-65 105,-65 105,65 -105,65 -105,-65
  text "Y3" at -13.75,24.48 h30
Mechanical 19:
  lines w6: -105,-65 105,-65 105,65 -105,65 -105,-65
  text "Y3" at -13.75,24.48 h30
Mechanical47:
  text "1" at -74.8,-4 h10
  text "2" at 74.8,-4 h10
Top Assembly:
  lines w6: -105,-65 105,-65 105,65 -105,65 -105,-65

## XTAL_ABS07_130X60_SMD_0-9 [mil] "XTAL_ABS07_130X60_SMD_0-9"
pads (2):
  rect 44x75 smd: 1(-50,0) 2(50,0)
Top Overlay:
  lines w6: -85,-55 -85,55 85,55 85,-55 -85,-55
  text ".Designator" at 17.5,65.55 h30
Top Courtyard:
  dashed: -79,-44.5 -79,44.5 79,44.5 79,-44.5
Top 3D Body:
  region: -85,-55 85,-55 85,55 -85,55
Mechanical 15:
  lines w6: -65,-35 65,-35 65,35 -65,35 -65,-35
  text "Y5" at 17.5,-24.45 h30
Mechanical 16:
  lines w6: -65,-35 65,-35 65,35 -65,35 -65,-35
  text "Y5" at 17.5,-24.45 h30
Mechanical 17:
  lines w6: -65,-35 65,-35 65,35 -65,35 -65,-35
  text "Y5" at 17.5,-24.45 h30
Mechanical 18:
  lines w6: -65,-35 65,-35 65,35 -65,35 -65,-35
  text "Y5" at 17.5,-24.45 h30
Mechanical 19:
  lines w6: -65,-35 65,-35 65,35 -65,35 -65,-35
  text "Y5" at 17.5,-24.45 h30
Mechanical47:
  text "1" at -50,4 h10
  text "2" at 50,4 h10
Top Assembly:
  lines w6: -65,-35 65,-35 65,35 -65,35 -65,-35
3D body: height 150, standoff 0, extent -85,-55 85,55